# Altium footprint library Zenite_Footprints.PcbLib: 28 footprints (part 1 of 2)
Each footprint in its own frame and in the unit in brackets; x right, y up, seen from the top. Pads: shape width x height; smd on the part's side, far side on the other; paste and mask are expansions set on the pad; w line width, h text height; cw(c..) or ccw(c..) is an arc to the next point about the centre after c.
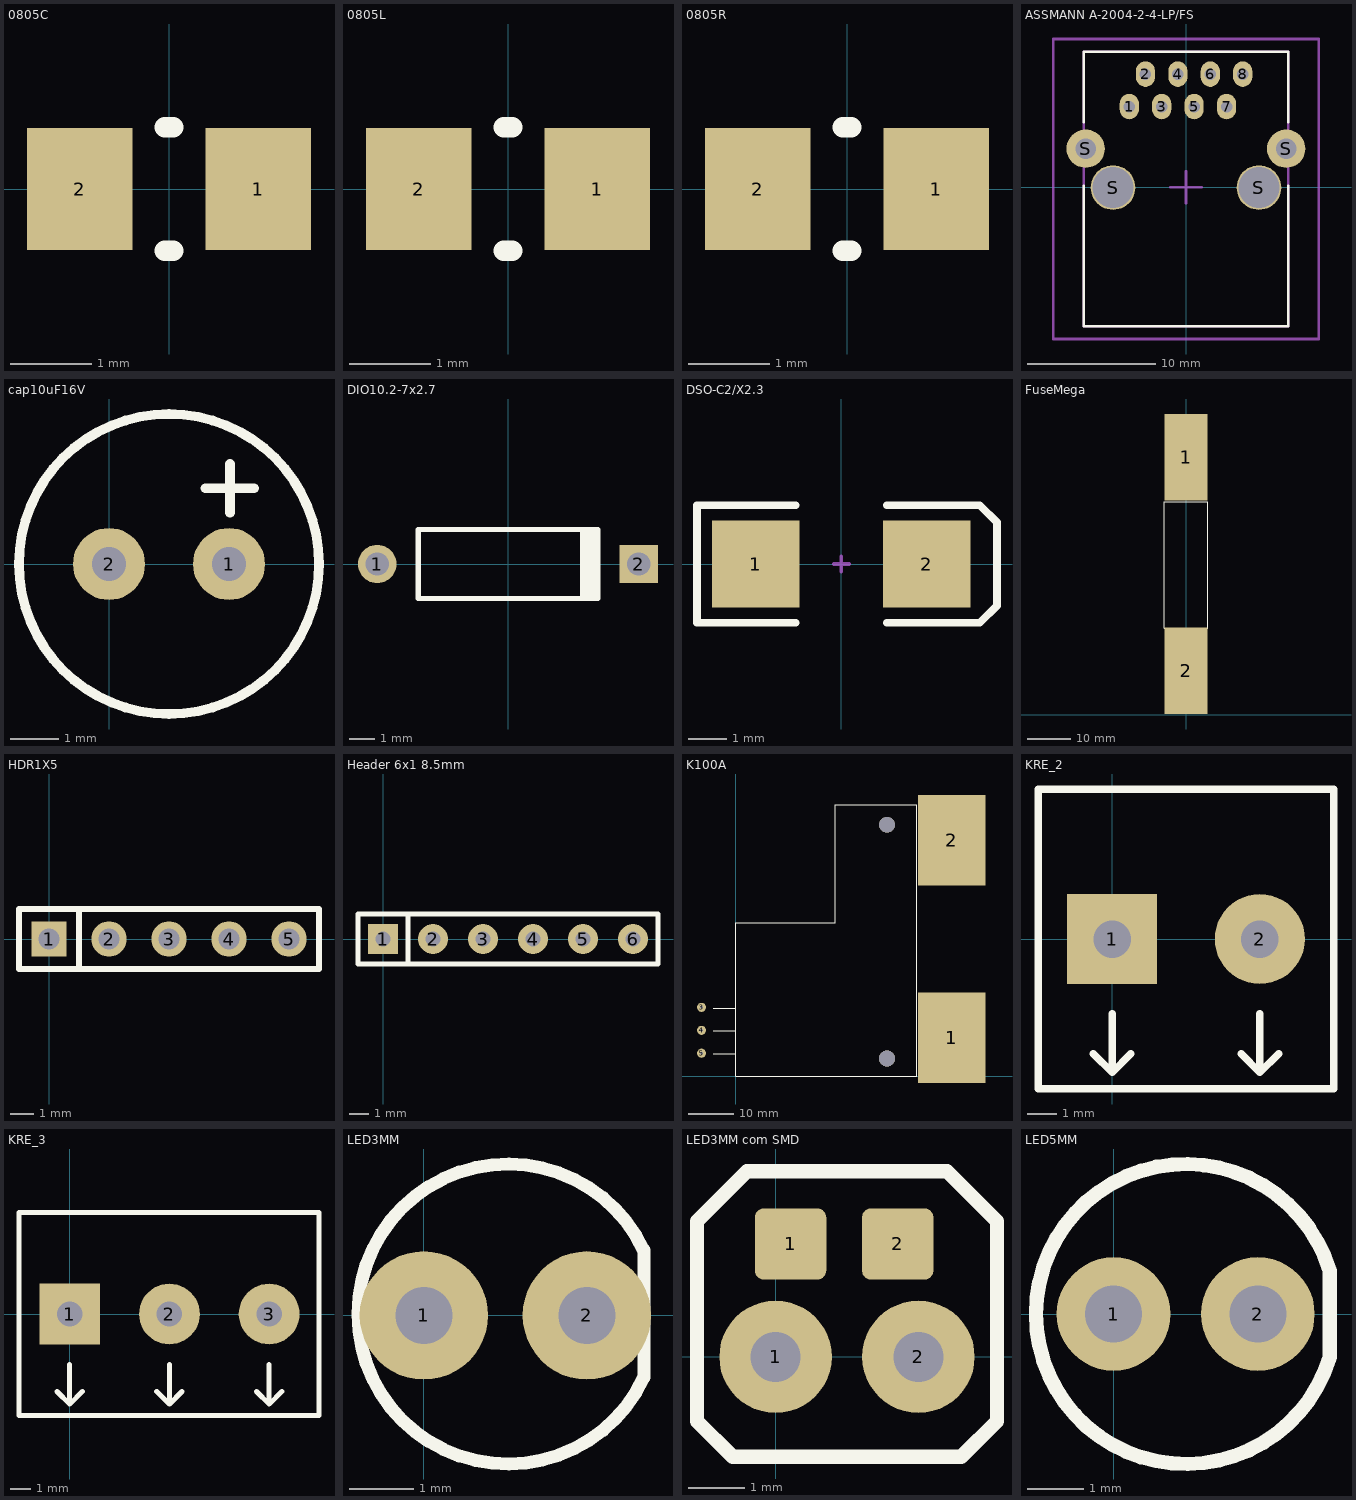
[diagram p0: the footprints below, top view; thin cyan lines are the x and y axes]

## 0805C [mm] "Chip Capacitor; Body 2 x 1.3 mm (LxW typ)"
height 0.6
pads (2):
  rect 1.3x1.5 smd: 1(1.1,0) 2(-1.1,0)
Top Overlay:
  lines w0.254: -0.051,-0.762 0.051,-0.762 ; -0.051,0.762 0.051,0.762
3D body: height 0.78, standoff 0, extent -1,-0.615 1,0.635

## 0805L [mm] "Chip Inductor; Body 2 x 1.3 mm (LxW typ)"
height 0.6
pads (2):
  rect 1.3x1.5 smd: 1(1.1,0) 2(-1.1,0)
Top Overlay:
  lines w0.254: -0.051,-0.762 0.051,-0.762 ; -0.051,0.762 0.051,0.762
3D body: height 0.95, standoff 0, extent -1,-0.59 1,0.61

## 0805R [mm] "Chip Resistor; Body 2 x 1.3 mm (LxW typ)"
height 0.6
pads (2):
  rect 1.3x1.5 smd: 1(1.1,0) 2(-1.1,0)
Top Overlay:
  lines w0.254: -0.051,-0.762 0.051,-0.762 ; -0.051,0.762 0.051,0.762
3D body: height 0.8, standoff 0.02, extent -0.991,-0.625 1.009,0.625

## ASSMANN A-2004-2-4-LP/FS [mm]
height 13.3
pads (12):
  oval 1.5x2 hole 0.9: 1(-4.445,6.31) 2(-3.175,8.85) 3(-1.905,6.31) 4(-0.635,8.85) 5(0.635,6.31) 6(1.905,8.85) 7(3.175,6.31) 8(4.445,8.85)
  round 3 hole 1.6: S(-7.855,3.01) S(7.845,3.01)
  round 3.5 hole 3.2: S(-5.715,-0.04) S(5.715,-0.04)
Top Overlay:
  lines w0.2: -8,0.1 -8,-10.9 8,-10.9 8,0.1 ; -8,5.1 -8,10.6 8,10.6 8,5.1
Mechanical 1:
  lines w0.2: -8,-10.9 -8,10.6 8,10.6 8,-10.9 -8,-10.9
Mechanical 15:
  lines w0.2: -1.25,0 1.25,0 ; 0,-1.25 0,1.25 ; -10.4,-11.9 10.4,-11.9 10.4,11.6 -10.4,11.6 -10.4,-11.9
3D body: height 13.6, standoff -3.5, extent -8,-10.9 8,10.6

## cap10uF16V [mm]
pads (2):
  round 1.5 hole 0.7: 1(2.5,0) 2(0,0)
Top Overlay:
  circle w0.2: c1.25,0 r3.125
  lines w0.2: 2.007,1.575 3.023,1.575 ; 2.521,1.067 2.521,2.083
3D body: height 10.51, standoff -3, extent -1.91,-3.176 4.4,3.124

## DIO10.2-7x2.7 [mm] "Diode, Axial; Body 7 x 2.7 mm (LxDia. max), Lead Dia. 0.53 mm (max)"
height 2.7
pads (2):
  round 1.5 hole 0.9: 1(-5.1,0)
  rect 1.5x1.5 hole 0.9: 2(5.1,0)
Top Overlay:
  rectangle: 2.8,-1.35 3.6,1.35
  lines w0.2: 3.5,-1.35 -3.5,-1.35 -3.5,1.35 3.5,1.35
3D body: height 2.73, standoff -2.6, extent -5.588,-1.397 5.436,1.343

## DSO-C2/X2.3 [mm] "DO-214-AA/SMB; 2 C-Bend Leads; Body 5.3 x 3.6 mm, inc. leads (LxW)"
height 2.54
pads (2):
  rect 2.3x2.3 smd: 1(-2.25,0) 2(2.25,0)
Top Overlay:
  lines w0.2: -1.2,-1.55 -3.8,-1.55 -3.8,1.55 -1.2,1.55 ; 1.2,-1.55 3.65,-1.55 4.1,-1.1 4.1,1.1 3.65,1.55 1.2,1.55
Mechanical 1:
  lines w0.1: -0.2,0 0.2,0 ; 0,-0.2 0,0.2
3D body: height 2.64, standoff -0.04, extent -2.616,-1.349 2.584,1.321

## FuseMega [mm]
pads (2):
  rect 10x20 smd: 1(0,59.436) 2(0,10.16)
Top Overlay:
  lines w0.254: -5.004,49.225 4.996,49.225 ; -5,49.2 -5,20 5,20 5,49.2
3D body: height 18.95, standoff -0.1, extent -5.416,0.483 5.314,69.063

## HDR1X5 [mm] "Connector; Header; 5 Position"
pads (5):
  rect 1.5x1.5 hole 0.9: 1(0,0)
  round 1.5 hole 0.9: 2(2.54,0) 3(5.08,0) 4(7.62,0) 5(10.16,0)
Top Overlay:
  lines w0.254: 1.27,-1.27 1.27,1.27 ; -1.27,-1.27 -1.27,1.27 11.43,1.27 11.43,-1.27 -1.27,-1.27
3D body: height 8.4, standoff -3.15, extent -1.27,-1.27 11.43,1.23

## Header 6x1 8.5mm [mil] "Stackable 6 pin header"
pads (6):
  rect 60x60 hole 30: 1(0,0)
  round 60 hole 30: 2(100,0) 3(200,0) 4(300,0) 5(400,0) 6(500,0)
Top Overlay:
  lines w10: 50,-50 -50,-50 -50,0 -50,50 50,50 ; 50,-50 50,50 ; 50,-50 550,-50 550,50 50,50
3D body: height 334.65, standoff -584.65, extent -50,-50 550,50

## K100A [mm] "Latching Relay 100A, 12V coil"
height 21
pads (5):
  rect 15x20 smd: 1(47.752,8.509) 2(47.752,52.197)
  round 2 hole 0.7: 3(-7.62,15.24) 4(-7.62,10.16) 5(-7.62,5.08)
via 33.401,3.937 diameter 3.5 hole 3.5
via 33.401,55.626 diameter 3.5 hole 3.5
Top Overlay:
  lines w0.254: -5,5 0,5 ; -5,10 0,10 ; -5,15 0,15 ; 22,60 22,34 0,34 0,0 40,0 ; 22.005,60 40.005,60 40.005,0
3D body: height 21, standoff 0, extent -0.28,0.226 45.72,60.226

## KRE_2 [mil] "Terminal Block 2 pins"
pads (2):
  rect 120x120 hole 50: 1(0,0)
  round 120 hole 50: 2(196.85,0)
Top Overlay:
  lines w10: -25,-153 0,-178 ; 0,-100 0,-178 ; 25,-153 0,-178 ; 171.85,-153 196.85,-178 ; 196.85,-100 196.85,-178 ; 221.85,-153 196.85,-178 ; -98.43,-200 295.28,-200 295.28,200 -98.43,200 -98.43,-200
3D body: height 559.07, standoff -137.8, extent -123.32,-189.76 294,215.76

## KRE_3 [mil] "Terminal Block 3 pins"
pads (3):
  rect 120x120 hole 50: 1(0,0)
  round 120 hole 50: 2(196.85,0) 3(393.7,0)
Top Overlay:
  lines w10: -25,-153 0,-178 ; 0,-100 0,-178 ; 25,-153 0,-178 ; 171.85,-153 196.85,-178 ; 196.85,-100 196.85,-178 ; 221.85,-153 196.85,-178 ; 368.7,-153 393.7,-178 ; 393.7,-100 393.7,-178 ; 418.7,-153 393.7,-178 ; -100,-200 492.13,-200 492.13,200 -100,200 -100,-200
3D body: height 559.07, standoff -137.8, extent -123.32,-189.76 490.85,215.76

## LED3MM [mm]
height 1.2
pads (2):
  round 2 hole 0.889: 1(0,0) 2(2.54,0)
Top Overlay:
  lines w0.203: 0.508,0 0.889,0 ; 1.651,0 2.032,0 ; 3.429,1.01 ccw(c1.311,0.022) 3.429,-0.965 3.429,1.016
3D body: height 5.5, standoff -3, extent -0.63,-1.9 2.87,1.9

## LED3MM com SMD [mil]
height 47.24
pads (4):
  round 78.74 hole 35: 1(0,0) 2(100,0)
  rrect25% 50x50 smd: 1(10.5,79) 2(85.5,79)
Top Overlay:
  lines w8: 20,0 35,0 ; 65,0 80,0
  lines w10: -55,-45 -30,-70 130,-70 155,-45 155,95 120,130 -20,130 -55,95 -55,-45
3D body: height 216.54, standoff -118.11, extent -24.8,-74.8 112.99,74.8

## LED5MM [mm]
height 9.552
pads (2):
  round 2 hole 1: 1(0,0) 2(2.54,0)
Top Overlay:
  lines w0.203: 0.508,0 0.889,0 ; 1.651,0 2.032,0
  lines w0.254: 3.803,-0.762 cw(c1.275,0) 3.803,0.76 3.803,-0.762
3D body: height 8.6, standoff -5, extent -1.28,-2.55 3.82,2.55